# Altium footprint library MD_AG1171.PcbLib: 1 footprints
Each footprint in its own frame and in the unit in brackets; x right, y up, seen from the top. Pads: shape width x height; smd on the part's side, far side on the other; paste and mask are expansions set on the pad; w line width, h text height; cw(c..) or ccw(c..) is an arc to the next point about the centre after c.
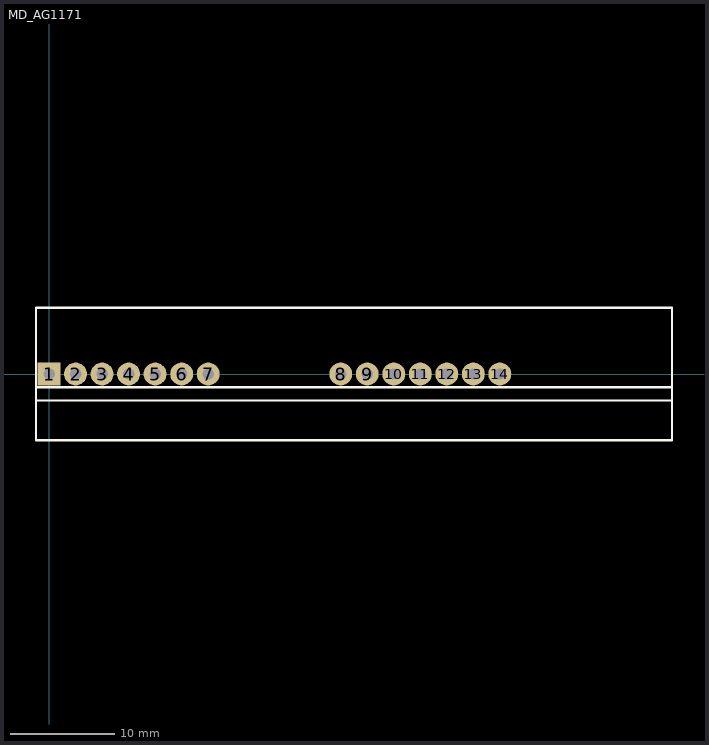
[diagram p0: the footprint, top view; thin cyan lines are the x and y axes]

## MD_AG1171 [mm]
pads (14):
  rect 2.2x2.2 hole 1.1: 1(0,0)
  round 2.2 hole 1.1: 2(2.54,0) 3(5.08,0) 4(7.62,0) 5(10.16,0) 6(12.7,0) 7(15.24,0) 8(27.94,0) 9(30.48,0) 10(33.02,0) 11(35.56,0) 12(38.1,0) 13(40.64,0) 14(43.18,0)
Top Overlay:
  lines w0.203: -1.27,-2.54 59.69,-2.54 ; -1.27,-1.27 59.69,-1.27 ; -1.27,-6.35 -1.27,6.35 59.69,6.35 59.69,-6.35 -1.27,-6.35
3D body: height 13, standoff 5, extent 45.562,4.898 53.53,12.882
3D body: height 9.54, standoff 4, extent -1.27,-10.04 1.27,0.32
3D body: height 9.54, standoff 4, extent 1.27,-10.04 3.81,0.32
3D body: height 9.54, standoff 4, extent 3.81,-10.04 6.35,0.32
3D body: height 9.54, standoff 4, extent 6.35,-10.04 8.89,0.32
3D body: height 9.54, standoff 4, extent 8.89,-10.04 11.43,0.32
3D body: height 9.54, standoff 4, extent 11.43,-10.04 13.97,0.32
3D body: height 9.54, standoff 4, extent 13.97,-10.04 16.51,0.32
3D body: height 9.54, standoff 4, extent 26.67,-10.04 29.21,0.32
3D body: height 9.54, standoff 4, extent 29.21,-10.04 31.75,0.32
3D body: height 9.54, standoff 4, extent 31.75,-10.04 34.29,0.32
3D body: height 9.54, standoff 4, extent 34.29,-10.04 36.83,0.32
3D body: height 9.54, standoff 4, extent 36.83,-10.04 39.37,0.32
3D body: height 9.54, standoff 4, extent 39.37,-10.04 41.91,0.32
3D body: height 9.54, standoff 4, extent 41.91,-10.04 44.45,0.32
3D body: height 19, standoff 7, extent -1.27,-5.08 59.69,-3.81
3D body: height 17.49, standoff 9.51, extent 41.561,-3.555 49.53,4.445
3D body: height 17.49, standoff 9.51, extent 50.642,-3.555 58.61,4.445